# Altium footprint library PCB - LEADED - SOIC-16_W.PCBLIB: 1 footprints
Each footprint in its own frame and in the unit in brackets; x right, y up, seen from the top. Pads: shape width x height; smd on the part's side, far side on the other; paste and mask are expansions set on the pad; w line width, h text height; cw(c..) or ccw(c..) is an arc to the next point about the centre after c.
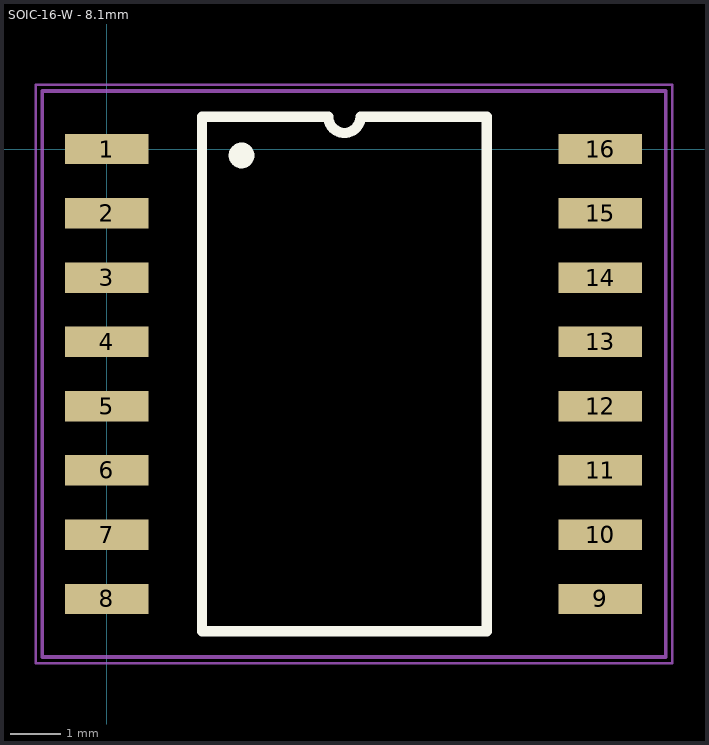
[diagram p0: the footprint, top view; thin cyan lines are the x and y axes]

## SOIC-16-W - 8.1mm [mm] "SMD Small Outline IC 16 pin Wide"
height 10.3
pads (16):
  rect 1.65x0.6 smd: 1(0,0) 2(0,-1.27) 3(0,-2.54) 4(0,-3.81) 5(0,-5.08) 6(0,-6.35) 7(0,-7.62) 8(0,-8.89) 9(9.75,-8.89) 10(9.75,-7.62) 11(9.75,-6.35) 12(9.75,-5.08) 13(9.75,-3.81) 14(9.75,-2.54) 15(9.75,-1.27) 16(9.75,0)
Top Overlay:
  circle w0.254: c2.667,-0.127 r0.127
  lines w0.203: 1.888,-9.525 1.888,0.635 4.383,0.635 ccw(c4.7,0.635) 5.018,0.635 7.512,0.635 7.512,-9.525 1.888,-9.525
Top Assembly:
  lines w0.076: -1.27,-10.033 -1.27,1.143 11.049,1.143 11.049,-10.033 -1.27,-10.033
  text ".Designator" at -0.889,1.651 h1.52
Top Courtyard (Mech7):
  lines w0.051: -1.397,-10.16 11.176,-10.16 11.176,1.27 -1.397,1.27 -1.397,-10.16
3D body "SOIC-16-300.STEP": height 2.57, standoff -0.03, extent -0.4,-9.699 10.2,0.801